# Altium schematic symbol library ecg-go.SchLib: 24 symbols
Pins are listed as number, name and electrical type; pins without a type are passive.

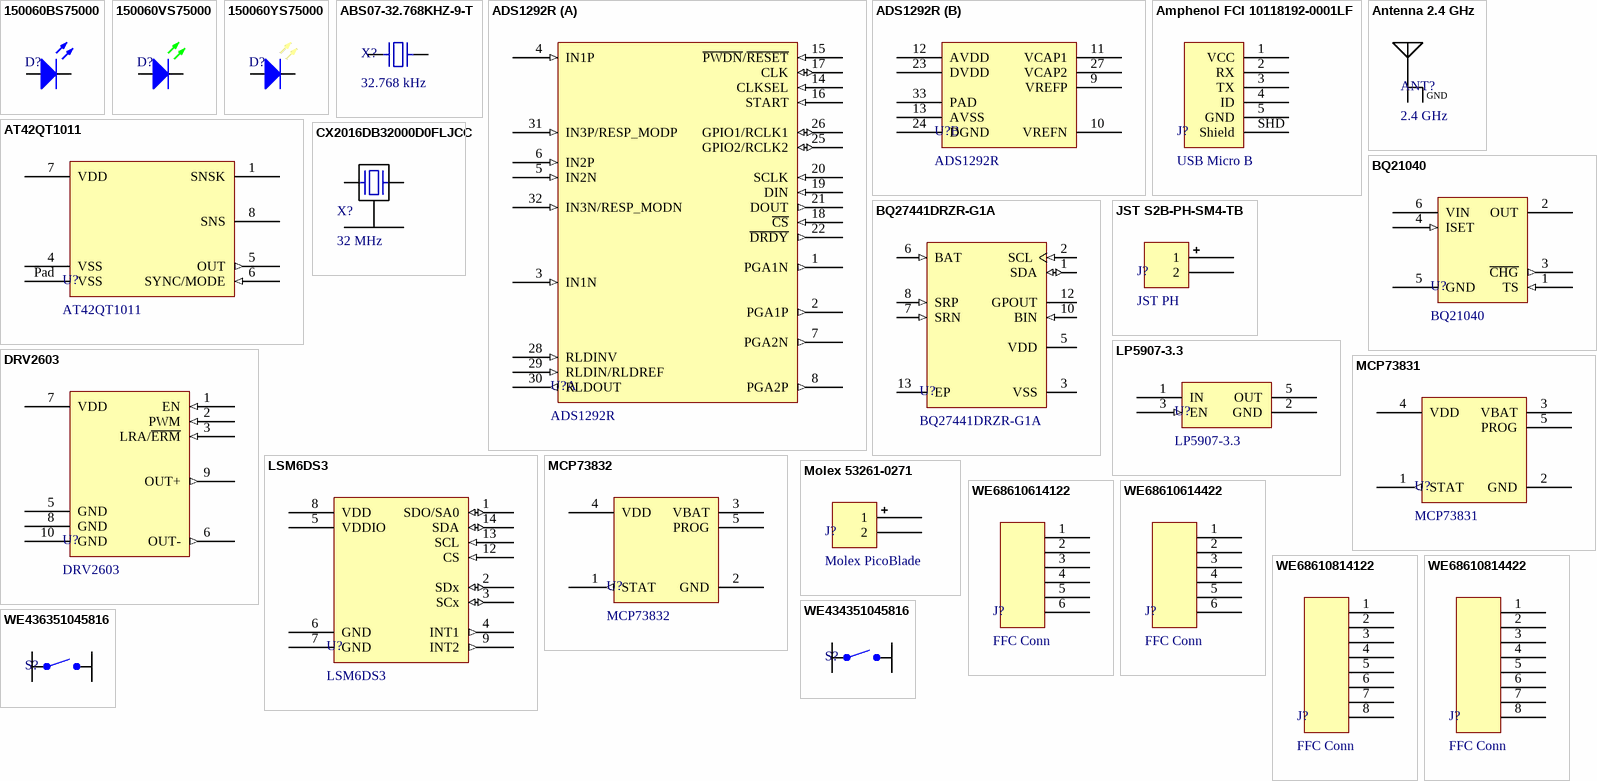
[diagram p0: symbols 150060BS75000 to WE436351045816]

## 150060BS75000
designator D?  (value not drawn)
LED - Blue, 3.2V, 0603; Supplier 1: Digi-Key; Supplier Part Number 1: 732-4966-1-ND
footprint WL-SMCW 0603 (Chip Diode, 2-Leads, Body 1,60x0,80mm, IPC Medium Density)
pins: 1 K, 2 A

## 150060VS75000
designator D?  (value not drawn)
LED - Green, 2V, 0603; Supplier 1: Digi-Key; Supplier Part Number 1: 732-4980-1-ND
footprint WL-SMCW 0603 (Chip Diode, 2-Leads, Body 1,60x0,80mm, IPC Medium Density)
pins: 1 K, 2 A

## 150060YS75000
designator D?  (value not drawn)
LED - Yellow, 2V, 0603; Supplier 1: Digi-Key; Supplier Part Number 1: 732-4981-1-ND
footprint WL-SMCW 0603 (Chip Diode, 2-Leads, Body 1,60x0,80mm, IPC Medium Density)
pins: 1 K, 2 A

## ABS07-32.768KHZ-9-T
designator X?, comment 32.768 kHz
Crystal - 32.768 kHz, 9 pF, 70 kOhm; Supplier 1: Digi-Key; Supplier Part Number 1: 535-9544-1-ND
footprint ABS07-32.768KHZ-9-T (Crystal - 32.768 kHz, 9 pF, 70 kOhm)
pins: 1, 2

## ADS1292R
designator U?
IC - Analog Front End - Medical; Supplier 1: Digi-Key; Supplier Part Number 1: 296-35020-1-ND
footprint ADS129x_QFN (QFN, 32-Leads, Body 4,00x4,00mm, Pitch 0,40mm, Thermal Pad 2,80x2,80mm, IPC Medium Density)
part A pins: 1 PGA1N (out), 2 PGA1P (out), 3 IN1N (in), 4 IN1P (in), 5 IN2N (in), 6 IN2P (in), 7 PGA2N (out), 8 PGA2P (out), 14 CLKSEL (in), 15 ~{PWDN}/~{RESET} (in), 16 START (in), 17 CLK (io), 18 ~{CS} (in), 19 DIN (in), 20 SCLK (in), 21 DOUT (out), 22 ~{DRDY} (out), 25 GPIO2/RCLK2 (io), 26 GPIO1/RCLK1 (io), 28 RLDINV (in), 29 RLDIN/RLDREF (in), 30 RLDOUT (out), 31 IN3P/RESP_MODP (in), 32 IN3N/RESP_MODN (in)
part B pins: 9 VREFP, 10 VREFN, 11 VCAP1, 12 AVDD (power), 13 AVSS (power), 23 DVDD (power), 24 DGND (power), 27 VCAP2, 33 PAD (power)

## Amphenol FCI 10118192-0001LF
designator J?, comment USB Micro B
Conn - USB Micro B, SMD, Receptacle; Supplier 1: Digi-Key; Supplier Part Number 1: 609-4613-1-ND
footprint Amphenol FCI 10118192-0001LF (Conn - USB Micro B, SMD, Receptacle)
pins: 1 VCC (power), 2 RX, 3 TX, 4 ID, 5 GND (power), SHD Shield (power)

## Antenna 2.4 GHz
designator ANT?, comment 2.4 GHz  (net tie, no BOM)
Antenna - Meandered Inverted F Antenna (IFA)
footprint ANT2.4GHZ_MIFA (Antenna - Meandered Inverted F Antenna (IFA))
pins: 1 IN, 2 GND

## AT42QT1011
designator U?
IC - Capacitive Touch Sensor, 1 Button; Supplier 1: Digi-Key; Supplier Part Number 1: AT42QT1011-MAHRCT-ND
footprint AT42QT1011 (IC - Capacitive Touch Sensor, 1 Button)
pins: 1 SNSK, 4 VSS (power), 5 OUT (out), 6 SYNC/MODE (in), 7 VDD (power), 8 SNS, Pad VSS (power)

## BQ21040
designator U?
IC - Battery Charger, Single Cell Li-Ion/LiPo, 0.8A; Supplier 1: Digi-Key; Supplier Part Number 1: 296-44196-1-ND
footprint BQ21040 (SOT23, 6-Leads, Body 2,90x2,80mm, Pitch 0,95mm, IPC Medium Density)
pins: 1 TS (in), 2 OUT (power), 3 ~{CHG} (out), 4 ISET (in), 5 GND (power), 6 VIN (power)

## BQ27441DRZR-G1A
designator U?
IC - Fuel Gauge, System-Side Impedance Track; PartNumber: BQ27410DRZR-G1A; Manufacturer: Texas Instruments; Eco-Plan: Green (RoHS & no Sb/Br); Lead Acid: N; Li-Ion: Y; SubFamily: Battery Fuel Gauge; DatasheetVersion: SLUSAF4; PackageVersion: revB, Apr-2006; PackageReference: DRZ12-1950X2450TP; PackageDescription: 12-Pin Plastic Small Outline No-Lead, 4 x 2.5 x 1 mm Body, 0.4 mm Pitch, Exposed Pad, Pb-Free; Li-Polymer: Y; NiCd: N; NiMH: N; Over Voltage Protection: N; Mounting Technology: Surface Mount; ComponentLink1Description: Datasheet; ComponentLink1URL: http://www.ti.com/general/docs/lit/getliterature.tsp?genericPartNumber=BQ27410-G1&fileType=pdf; Supplier 1: Digi-Key; Supplier Part Number 1: 296-39941-1-ND
footprint BQ27441DRZx-G1A (SON, 12-Leads, Body 4x2.5mm, Pitch 0.4mm, Thermal Pad 1.95x2.45mm, TI Recommended)
pins: 1 SDA (io) "Slave I2C serial communications data line for communication with system (Master). Open-drain I/O. Use with 10kohm pull-up resistor (typical).", 2 SCL (in) "Slave I2C serial communications clock input line for communication with system (Master). Use with 10kohm pull-up resistor (typical).", 3 VSS (power) "Device ground", 5 VDD (power) "Processor power input. Decouple with minimum 0.1µF ceramic capacitor.", 6 BAT (in) "Cell-voltage measurement input. ADC input. Recommend 4.8V maximum for conversion accuracy.", 7 SRN (in) "Analog input pin connected to the internal coulomb counter where SRN is nearest the Vss connection.Connect to 5-mohm to 20-mohm sense resistor.", 8 SRP (in) "Analog input pin connected to the internal coulomb counter where SRP is nearest the PACK- connection.Connect to 5-mohm to 20-mohm sense resistor.", 10 BIN (in) "Battery-insertion detection input. A logic high to low transition is detected as a battery insertion event.", 12 GPOUT (oc) "General Purpose open-drain output. May be configured as Battery Low indicator or perform SOC interrupt (SOC_INT) function.", 13 EP "Exposed thermal pad"

## CX2016DB32000D0FLJCC
designator X?, comment 32 MHz
Crystal - 32 MHz, 8 pF, 80 Ohm; Supplier 1: Digi-Key; Supplier Part Number 1: 1253-1118-1-ND
footprint CX2016DB32000D0FLJCC (Crystal - 32 MHz, 8 pF, 80 ohm)
pins: 1, 2, 3, 4

## DRV2603
designator U?
IC - Haptic Drive, ERM/LRA, Auto Resonance; Supplier 1: Digi-Key; Supplier Part Number 1: 296-30613-1-ND
footprint DRV2603 (IC - Haptic Drive, ERM/LRA, Auto Resonance)
pins: 1 EN (in), 2 PWM (in), 3 LRA/~{ERM} (in), 5 GND (power), 6 OUT- (out), 7 VDD (power), 8 GND (power), 9 OUT+ (out), 10 GND (power)

## JST S2B-PH-SM4-TB
designator J?, comment JST PH
Conn - Battery, JST, Male, 2 Pin, SMD, Right Angle; Supplier 1: Digi-Key; Supplier Part Number 1: 455-1749-1-ND
footprint JST S2B-PH-SM4-TB (Conn - Battery, JST, Male, 2 Pin, SMD, Right Angle)
pins: 1, 2

## LP5907-3.3
designator U?
IC - Voltage Regulator, Linear; Supplier 1: Digi-Key; Supplier Part Number 1: 296-38557-1-ND
footprint LP5907 (SOT23, 5-Leads, Body 2,90x2,80mm, Pitch 0,95mm, IPC Medium Density)
pins: 1 IN (power), 2 GND (power), 3 EN (in), 5 OUT (power)

## LSM6DS3
designator U?
IC - Inertial Measurement Unit, Accelerometer, Gyroscope, 6D; Supplier 1: Digi-Key; Supplier Part Number 1: 497-15383-1-ND
footprint LSM6DS3 (IC - Inertial Measurement Unit, Accelerometer, Gyroscope, 6D)
pins: 1 SDO/SA0 (io), 2 SDx (io), 3 SCx (io), 4 INT1 (out), 5 VDDIO (power), 6 GND (power), 7 GND (power), 8 VDD (power), 9 INT2 (out), 12 CS (in), 13 SCL (in), 14 SDA (io)

## MCP73831
designator U?
IC - Battery Charger, Single Cell Li-Ion/LiPo, 0.5A; Supplier 1: Digi-Key; Supplier Part Number 1: MCP73831T-2ACI/OTCT-ND
footprint MCP7383X (SOT23, 5-Leads, Body 2,90x2,70mm, Pitch 0,95mm, IPC Medium Density)
pins: 1 STAT (out), 2 GND (power), 3 VBAT (power), 4 VDD (power), 5 PROG

## MCP73832
designator U?
IC - Battery Charger, Single Cell Li-Ion/LiPo, 0.5A; Supplier 1: Digi-Key; Supplier Part Number 1: MCP73832T-2ACI/OTCT-ND
footprint MCP7383X (SOT23, 5-Leads, Body 2,90x2,70mm, Pitch 0,95mm, IPC Medium Density)
pins: 1 STAT (out), 2 GND (power), 3 VBAT (power), 4 VDD (power), 5 PROG

## Molex 53261-0271
designator J?, comment Molex PicoBlade
Conn - Battery, PicoBlade, Male, 2 Pin, SMD, Right Angle; Supplier 1: Digi-Key; Supplier Part Number 1: WM7620CT-ND
footprint Molex 53261-0271 (Conn - Battery, PicoBlade, Male, 2 Pin, SMD, Right Angle)
pins: 1, 2

## WE68610614122
designator J?, comment FFC Conn
Conn - FFC, 6 Pin, 1 mm Pitch, Top Contacts, SMD, Right Angle, Slide Lock; Supplier 1: Digi-Key; Supplier Part Number 1: 732-2002-1-ND
footprint WE68610614122 (Conn - FFC, 6 Pin, Top Contacts, SMD, Right Angle, Slide Lock)
pins: 1, 2, 3, 4, 5, 6

## WE68610614422
designator J?, comment FFC Conn
Conn - FFC, 6 Pin, 1 mm Pitch, Bottom Contacts, SMD, Right Angle, Slide Lock; Supplier 1: Digi-Key; Supplier Part Number 1: 732-1994-1-ND
footprint WE68610614422 (Conn - FFC, 6 Pin, Bottom Contacts, SMD, Right Angle, Slide Lock)
pins: 1, 2, 3, 4, 5, 6

## WE68610814122
designator J?, comment FFC Conn
Conn - FFC, 8 Pin, 1 mm Pitch, Top Contacts, SMD, Right Angle, Slide Lock; Supplier 1: Digi-Key; Supplier Part Number 1: 732-2003-1-ND
footprint WE68610814122 (Conn - FFC, 8 Pin, 1 mm Pitch, Bottom Contacts, SMD, Right Angle, Slide Lock)
pins: 1, 2, 3, 4, 5, 6, 7, 8

## WE68610814422
designator J?, comment FFC Conn
Conn - FFC, 8 Pin, 1 mm Pitch, Bottom Contacts, SMD, Right Angle, Slide Lock; Supplier 1: Digi-Key; Supplier Part Number 1: 732-1995-1-ND
footprint WE68610814422 (Conn - FFC, 8 Pin, 1 mm Pitch, Bottom Contacts, SMD, Right Angle, Slide Lock)
pins: 1, 2, 3, 4, 5, 6, 7, 8

## WE434351045816
designator S?  (value not drawn)
Switch - Tactile, Off-Mom, SPST, Side-Actuated; Supplier 1: Digi-Key; Supplier Part Number 1: 732-7057-1-ND
footprint WE434351045816 (Switch - Tactile, Off-Mom, SPST, Side-Actuated)
pins: 1, 2, 3, 4

## WE436351045816
designator S?  (value not drawn)
Switch - Tactile, Off-Mom, SPST, Side-Actuated; Supplier 1: Digi-Key; Supplier Part Number 1: 732-7061-1-ND
footprint WE436351045816 (Switch - Tactile, Off-Mom, SPST, Side-Actuated)
pins: 1, 2, 3, 4